# Altium schematic symbol library Slave_Programmer.SchLib: 10 symbols
Pins are listed as number, name and electrical type; pins without a type are passive.

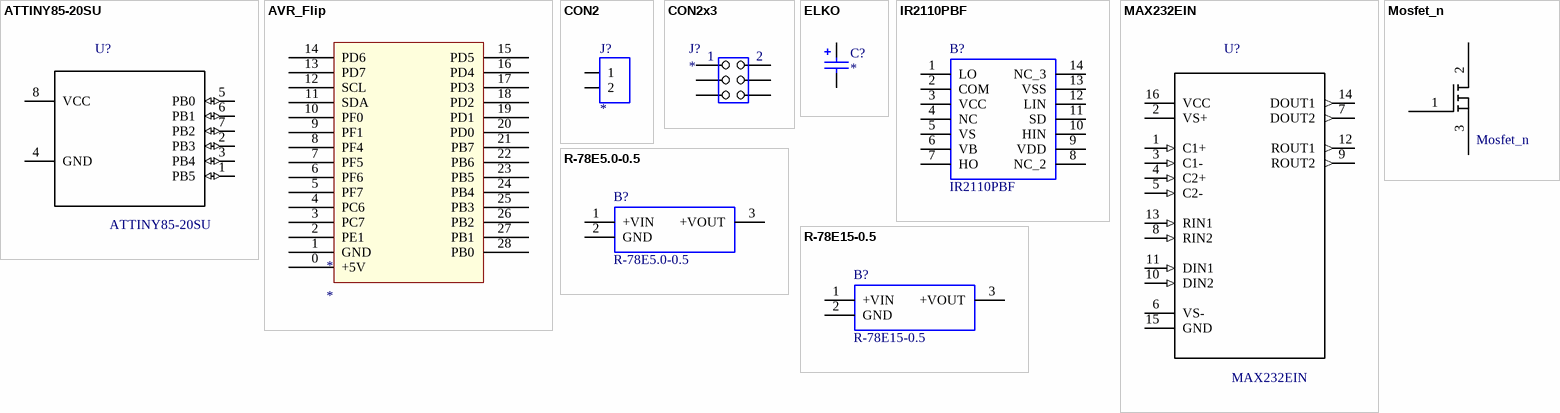
[diagram p0: symbols ATTINY85-20SU to R-78E15-0.5]

## ATTINY85-20SU
designator U?
Embedded microcontroller ATTINY85-20SU SOIC 8 Microchip Technology 8-Bit 20 MHz I/O number 6; MP: ATTINY85-20SU; Price: None; Availability: Unavailable; SnapEDA_Link: https://www.snapeda.com/parts/ATTINY85-20SU/Microchip/view-part/?ref=snap; Package: SOIC-8 Microchip; MF: Microchip; Value: *
footprint DIP254P762X533-14
pins: 1 PB5 (io), 2 PB3 (io), 3 PB4 (io), 4 GND, 5 PB0 (io), 6 PB1 (io), 7 PB2 (io), 8 VCC (power)

## AVR_Flip
designator *
footprint AVR_Flip
pins: 0 +5V, 1 GND, 2 PE1, 3 PC7, 4 PC6, 5 PF7, 6 PF6, 7 PF5, 8 PF4, 9 PF1, 10 PF0, 11 SDA, 12 SCL, 13 PD7, 14 PD6, 15 PD5, 16 PD4, 17 PD3, 18 PD2, 19 PD1, 20 PD0, 21 PB7, 22 PB6, 23 PB5, 24 PB4, 25 PB3, 26 PB2, 27 PB1, 28 PB0

## CON2
designator J?
Stecker
footprint Anschluss
pins: 1, 2

## CON2x3
designator J?
Stecker
footprint PFOSTEN_2x3
footprint PFOSTEN_2x3_SMD
pins: 1, 2, 3, 4, 5, 6

## ELKO
designator C?
Elko
simulation model Model Name (Model Description)
footprint SMD ELko
footprint SMD ELko 2
pins: 1, 2

## IR2110PBF
designator B?
MOSFET/IGBT driver IR2110 DIP14 2A; Manufacturer_Name: International Rectifier; RS Part Number: 2509056765; Manufacturer_Part_Number: IR2110PBF; Datasheet Link: http://uk.rs-online.com/web/p/products/2509056765
footprint DIP254P762X533-14
pins: 1 LO, 2 COM, 3 VCC, 4 NC, 5 VS, 6 VB, 7 HO, 8 NC_2, 9 VDD, 10 HIN, 11 SD, 12 LIN, 13 VSS, 14 NC_3

## MAX232EIN
designator U?
Dual RS-232 Driver/Receiver with IEC61000-4-2 Protection 16-PDIP -40 to 85; MF: Texas Instruments; Package: PDIP-16 Texas Instruments; Availability: Unavailable; MP: MAX232EIN; SnapEDA_Link: https://www.snapeda.com/parts/MAX232EIN/Texas%20Instruments/view-part/?ref=snap; Price: None; Value: *
footprint *DIP254P762X508-16
pins: 1 C1+ (in), 2 VS+ (power), 3 C1- (in), 4 C2+ (in), 5 C2- (in), 6 VS- (power), 7 DOUT2 (out), 8 RIN2 (in), 9 ROUT2 (out), 10 DIN2 (in), 11 DIN1 (in), 12 ROUT1 (out), 13 RIN1 (in), 14 DOUT1 (out), 15 GND, 16 VCC (power)

## Mosfet_n
designator Mosfet_n  (value not drawn)
footprint TO-220V_SMD
pins: 1, 2, 3

## R-78E5.0-0.5
designator B?
Switching Regulator,7-28Vin,5Vout 0.5A Switching Regulator, 7; Manufacturer_Name: RECOM Power; RS Part Number: 1666675; Manufacturer_Part_Number: R-78E5.0-0.5; Datasheet Link: http://uk.rs-online.com/web/p/products/1666675
footprint SHDRV3W100P0_254_1X3_1160X850X1040P
pins: 1 +VIN, 2 GND, 3 +VOUT

## R-78E15-0.5
designator B?
Switching Regulator,7-28Vin,5Vout 0.5A Switching Regulator, 7; Manufacturer_Name: RECOM Power; RS Part Number: 1666675; Manufacturer_Part_Number: R-78E15-0.5; Datasheet Link: http://uk.rs-online.com/web/p/products/1666675
footprint 15V
pins: 1 +VIN, 2 GND, 3 +VOUT